# EAGLE library part SW_INCL_ENCODER (library mylib_20130829)
ALPS rotary Encoder EC12E series with switch
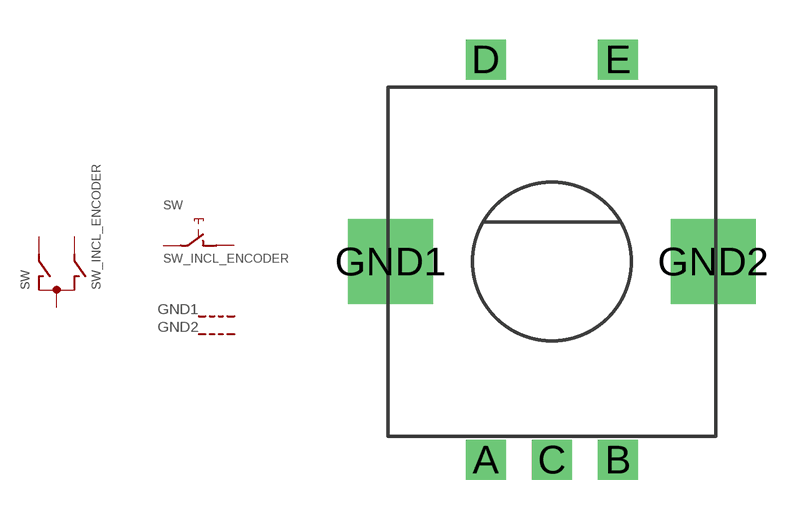
[diagram p60: symbol with the pads of SW_INCL_ENCODER; footprint SW_INCL_ENCODER]

Designator prefix SW; gates G$1=SW_ENCODER_A G$2=SW_ENCODER_B G$3=SW_ENCODER_C G$4=SW_ENCODER_C

## SW_INCL_ENCODER  [SW_INCL_ENCODER]
A  G$1:A  pas
B  G$1:B  pas
C  G$1:C  pas
D  G$2:1  pas
E  G$2:2  pas
GND1  G$3:G  pas
GND2  G$4:G  pas

## Footprint SW_INCL_ENCODER (pad centres in mm)
ALPS rotary encoder EC12E series with push-on switch
drill 1 square: A -2.5,-7.5; B 2.5,-7.5; C 0,-7.5; D -2.5,7.635; E 2.5,7.635
drill 2.2 square: GND1 -6.1,0; GND2 6.1,0